# Altium integrated library TST-104-04-G-D-LA2.IntLib: 1 symbol
Pins are listed as number, name and electrical type; pins without a type are passive.

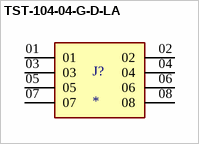
[diagram p0: symbol TST-104-04-G-D-LA]

## TST-104-04-G-D-LA
designator J?
MP: TST-104-04-G-D-LA; Package: None; Price: None; Value: *; Availability: Unavailable
footprint SAMTEC_TST-104-04-G-D-LA
pins: 01, 02, 03, 04, 05, 06, 07, 08